# Altium schematic symbol library SW-PB2.SCHLIB: 1 symbol
Pins are listed as number, name and electrical type; pins without a type are passive.

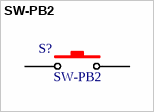
[diagram p0: symbol SW-PB2]

## SW-PB2
designator S?
Switch; Manufacturer P/N: RP3502ARED; Manufacturer: E-Switch; Package: Panel Mount, Front 12.7mm; Supplier 1: Digikey; Supplier Part Number 1: EG1930-ND; Type: SWITCH PUSH SPST-NO 3A 120V; Value: *
footprint SPST-2 (Switch; 2 Leads)
footprint CONN1X2B
pins: 1, 2